# Altium schematic symbol library REF33XXAIDBZT.SchLib: 6 symbols
Pins are listed as number, name and electrical type; pins without a type are passive.

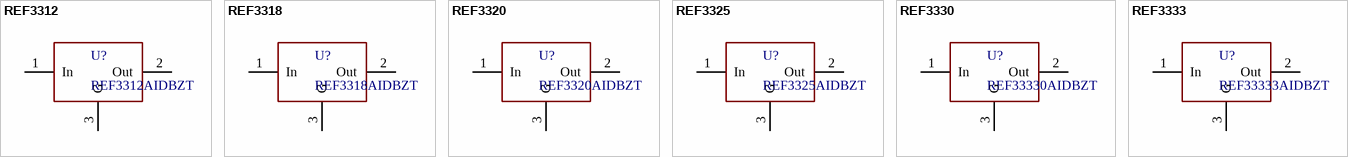
[diagram p0: symbols REF3312 to REF3333]

## REF3312
designator U?, comment REF3312AIDBZT
3.9μA, SC70-3, 30ppm/°C Drift VOLTAGE REFERENCE
footprint SOT95P245X110-3N (SOT23, 3-Leads, Body 2,90x2,45mm, Pitch 0,95mm, IPC Medium Density)
pins: 1 In, 2 Out, 3 G

## REF3318
designator U?, comment REF3318AIDBZT
3.9μA, SC70-3, 30ppm/°C Drift VOLTAGE REFERENCE
footprint SOT95P245X110-3N (SOT23, 3-Leads, Body 2,90x2,45mm, Pitch 0,95mm, IPC Medium Density)
pins: 1 In, 2 Out, 3 G

## REF3320
designator U?, comment REF3320AIDBZT
3.9μA, SC70-3, 30ppm/°C Drift VOLTAGE REFERENCE
footprint SOT95P245X110-3N (SOT23, 3-Leads, Body 2,90x2,45mm, Pitch 0,95mm, IPC Medium Density)
pins: 1 In, 2 Out, 3 G

## REF3325
designator U?, comment REF3325AIDBZT
3.9μA, SC70-3, 30ppm/°C Drift VOLTAGE REFERENCE
footprint SOT95P245X110-3N (SOT23, 3-Leads, Body 2,90x2,45mm, Pitch 0,95mm, IPC Medium Density)
pins: 1 In, 2 Out, 3 G

## REF3330
designator U?, comment REF33330AIDBZT
3.9μA, SC70-3, 30ppm/°C Drift VOLTAGE REFERENCE
footprint SOT95P245X110-3N (SOT23, 3-Leads, Body 2,90x2,45mm, Pitch 0,95mm, IPC Medium Density)
pins: 1 In, 2 Out, 3 G

## REF3333
designator U?, comment REF33333AIDBZT
3.9μA, SC70-3, 30ppm/°C Drift VOLTAGE REFERENCE
footprint SOT95P245X110-3N (SOT23, 3-Leads, Body 2,90x2,45mm, Pitch 0,95mm, IPC Medium Density)
pins: 1 In, 2 Out, 3 G